# Altium schematic symbol library 3pos180connector.SchLib: 1 symbol
Pins are listed as number, name and electrical type; pins without a type are passive.

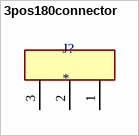
[diagram p0: symbol 3pos180connector]

## 3pos180connector
designator J?
<b>WR-WTB 1.50mm SMT Male Horizontal Shrouded Header, 3 Pins</b>=>Code : Con_WTB_1.50_PCB_SMT_648103131822 <br><a href="http://katalog.we-online.de/media/thumbs2/eican/thb_Con_WTB_1.50_PCB_SMT_6481xx131822_pf2.jpg" title="Enlarge picture"> <img src="http://katalog.we-online.de/media/thumbs2/eican/thb_Con_WTB_1.50_PCB_SMT_6481xx131822_pf2.jpg"  width="320"></a><p> Details see: <a href="http://katalog.we-online.de/en/em/WTB_1_50_SMT_MALE_HORIZONTAL_SHROUDED_HEADER_6481XX131822">http://katalog.we-online.de/en/em/WTB_1_50_SMT_MALE_HORIZONTAL_SHROUDED_HEADER_6481XX131822</a><p> Created 2014-06-06, Karrer Zheng<br> 2014 (C) WÃ¼rth Elektronik; Package: None; Price: None; Value: *; MP: 648103131822; Availability: Unavailable
footprint 648103131822
pins: 1, 2, 3